# EAGLE library part IFX91041 (library ethernet_poe_v2.1)
1.8A DC/DC Step-Down Voltage Regulator 5.0V, 3.3V, or Adjustable Output
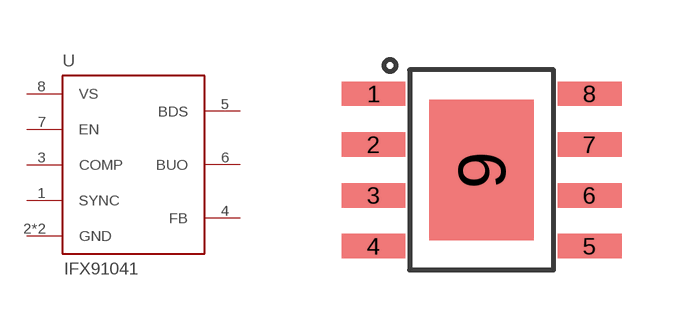
[diagram p1: symbol with the pads of SOIC-8-EXPOSED_PAD; footprint SOIC-8-EXPOSED_PAD]

Designator prefix U

## IFX91041 (DKPN: IFX91041EJV50XUMA1CT-ND)  [SOIC-8-EXPOSED_PAD]
1  SYNC  in
2  GND  pwr
3  COMP
4  FB
5  BDS
6  BUO
7  EN  in
8  VS  pwr
9  GND  pwr

## Footprint SOIC-8-EXPOSED_PAD (pad centres in mm)
SOIC-8 Package with Thermal Pad underneath
smd 1.6 x 0.61: 1 -2.7,1.905; 2 -2.7,0.635; 3 -2.7,-0.635; 4 -2.7,-1.905; 5 2.7,-1.905; 6 2.7,-0.635; 7 2.7,0.635; 8 2.7,1.905
smd 2.62 x 3.51: 9 0,0